# EAGLE library part M74HC4020B1R (library ST Microelectronics)
14 STAGE BINARY COUNTER
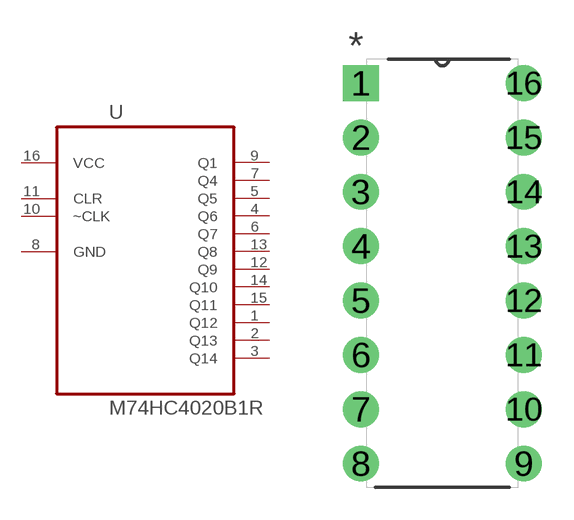
[diagram p232: symbol with the pads of DIP254P762X510-16; footprint DIP254P762X510-16]

Designator prefix U

## M74HC4020B1R (MPN: M74HC4020B1R; OC_FARNELL: 9755519; OC_NEWARK: 89K0900; PACKAGE: PDIP-16; SUPPLIER: STMICROELECTRONICS)  [DIP254P762X510-16]
1  Q12  out
2  Q13  out
3  Q14  out
4  Q6  out
5  Q5  out
6  Q7  out
7  Q4  out
8  GND  pas
9  Q1  out
10  ~CLK  in
11  CLR  in
12  Q9  out
13  Q8  out
14  Q10  out
15  Q11  out
16  VCC  pwr

## Footprint DIP254P762X510-16 (pad centres in mm)
drill 1.118 square: 1 -7.62,17.78
drill 1.118: 2 -7.62,15.24; 3 -7.62,12.7; 4 -7.62,10.16; 5 -7.62,7.62; 6 -7.62,5.08; 7 -7.62,2.54; 8 -7.62,0; 9 0,0; 10 0,2.54; 11 0,5.08; 12 0,7.62; 13 0,10.16; 14 0,12.7; 15 0,15.24; 16 0,17.78